# Altium integrated library Microchip DSC 16-Bit dsPIC33F.IntLib: 595 symbols (part 1 of 31)
Pins are listed as number, name and electrical type; pins without a type are passive.

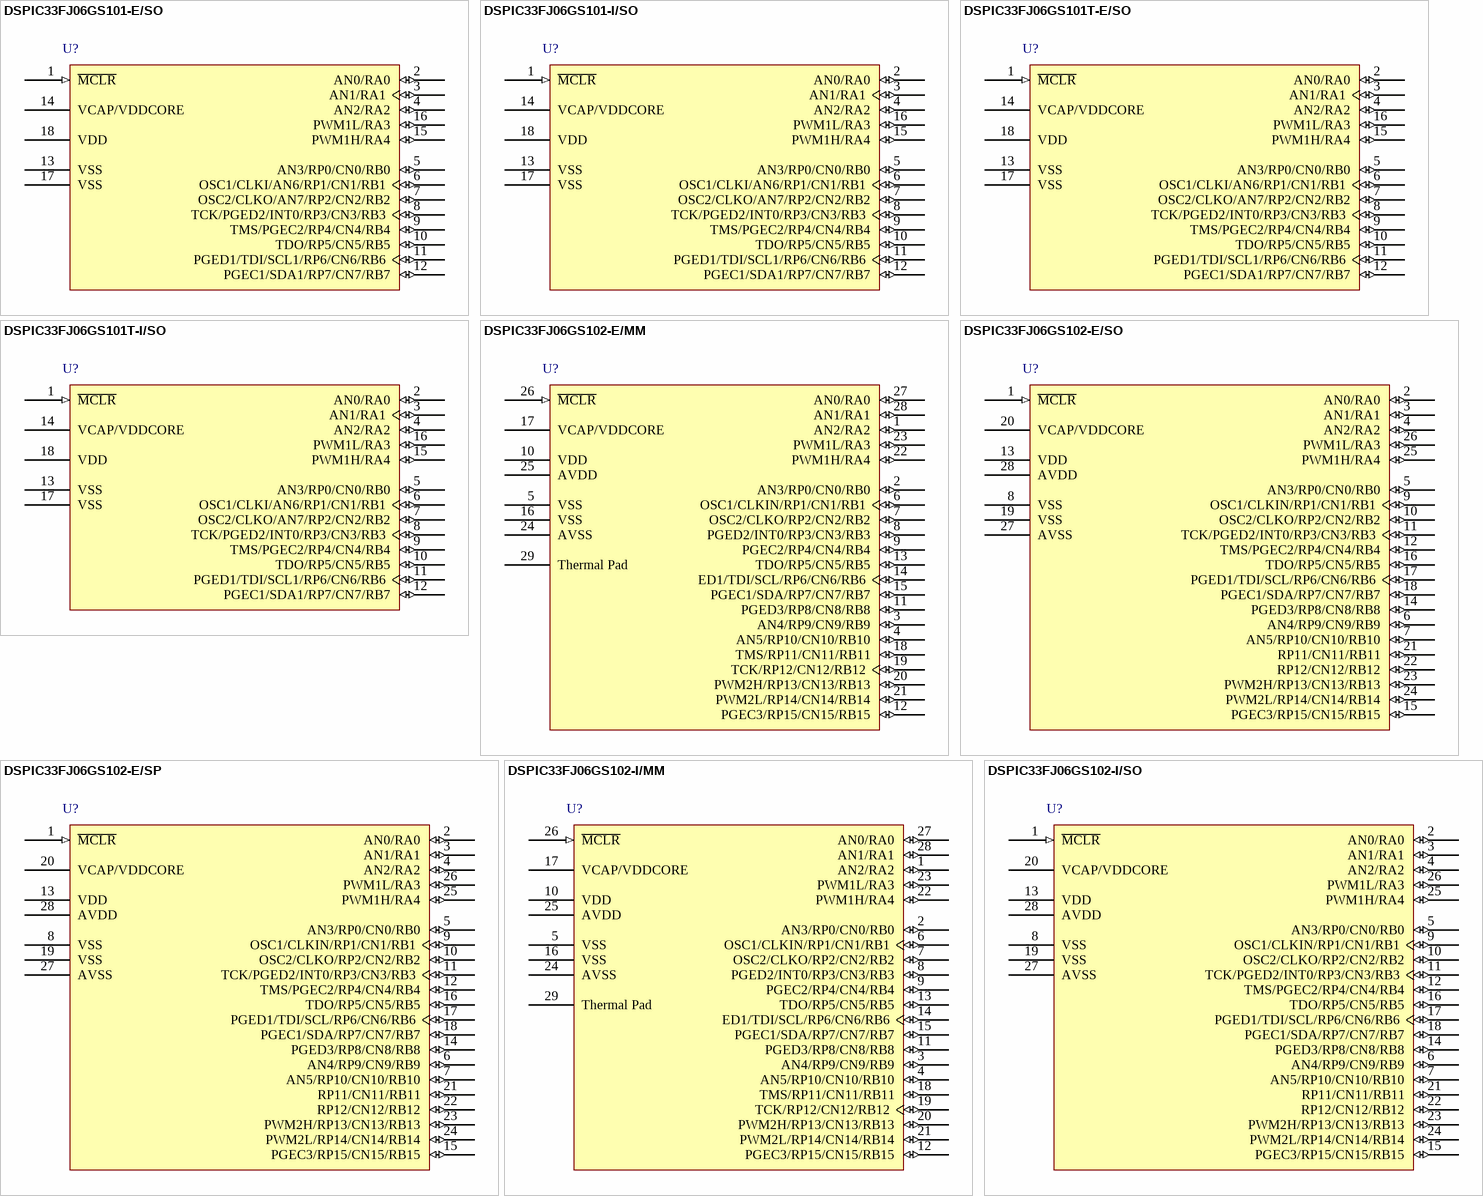
[diagram p0: symbols DSPIC33FJ06GS101-E/SO to DSPIC33FJ06GS102-I/SO]

## DSPIC33FJ06GS101-E/SO
designator U?
High-Performance 16-bit Digital Signal Controller, 6 KB Flash, 256B RAM , 18-Pin SOIC, Extended High Temperature; Published: 2-Dec-2009; DatasheetVersion: revD, Mar-2009; PackageVersion: revBB, Aug-2009; PackageReference: SOIC-SO18; Publisher: Altium Limited; PackageDescription: 18-Lead Plastic Small Outline (SO) - Wide 7.50mm Body [SOIC]; Supplier 1: Digi-Key; Supplier Part Number 1: DSPIC33FJ06GS101-E/SO-ND; Code_JEDEC: MS-013; ComponentLink1Description: Datasheet; ComponentLink1URL: http://ww1.microchip.com/downloads/en/DeviceDoc/70318D.pdf; ComponentLink2Description: Packaging Specification; ComponentLink2URL: http://www.microchip.com/stellent/groups/techpub_sg/documents/packagingspec/en012702.pdf; ComponentLink3Description: Microchip.com Home; ComponentLink3URL: http://www.microchip.com/
footprint SOIC-SO18_N (SOIC, 18-Leads, Body 11.5x7.5mm, Pitch 1.27mm, IPC Medium Density)
footprint SOIC-SO18_L (SOIC, 18-Leads, Body 11.5x7.5mm, Pitch 1.27mm, IPC High Density)
footprint SOIC-SO18_M (SOIC, 18-Leads, Body 11.5x7.5mm, Pitch 1.27mm, IPC Low Density)
pins: 1 ~{MCLR} (in), 2 AN0/RA0 (io), 3 AN1/RA1 (io), 4 AN2/RA2 (io), 5 AN3/RP0/CN0/RB0 (io), 6 OSC1/CLKI/AN6/RP1/CN1/RB1 (io), 7 OSC2/CLKO/AN7/RP2/CN2/RB2 (io), 8 TCK/PGED2/INT0/RP3/CN3/RB3 (io), 9 TMS/PGEC2/RP4/CN4/RB4 (io), 10 TDO/RP5/CN5/RB5 (io), 11 PGED1/TDI/SCL1/RP6/CN6/RB6 (io), 12 PGEC1/SDA1/RP7/CN7/RB7 (io), 13 VSS (power), 14 VCAP/VDDCORE (power), 15 PWM1H/RA4 (io), 16 PWM1L/RA3 (io), 17 VSS (power), 18 VDD (power)

## DSPIC33FJ06GS101-I/SO
designator U?
High-Performance 16-bit Digital Signal Controller, 6 KB Flash, 256B RAM , 18-Pin SOIC, Industrial Temperature; Published: 2-Dec-2009; DatasheetVersion: revD, Mar-2009; PackageVersion: revBB, Aug-2009; PackageReference: SOIC-SO18; Publisher: Altium Limited; PackageDescription: 18-Lead Plastic Small Outline (SO) - Wide 7.50mm Body [SOIC]; Supplier 1: Digi-Key; Supplier Part Number 1: DSPIC33FJ06GS101-I/SO-ND; Supplier 2: Farnell; Supplier Part Number 2: 1778678; Code_JEDEC: MS-013; ComponentLink1Description: Datasheet; ComponentLink1URL: http://ww1.microchip.com/downloads/en/DeviceDoc/70318D.pdf; ComponentLink2Description: Packaging Specification; ComponentLink2URL: http://www.microchip.com/stellent/groups/techpub_sg/documents/packagingspec/en012702.pdf; ComponentLink3Description: Microchip.com Home; ComponentLink3URL: http://www.microchip.com/
footprint SOIC-SO18_N (SOIC, 18-Leads, Body 11.5x7.5mm, Pitch 1.27mm, IPC Medium Density)
footprint SOIC-SO18_L (SOIC, 18-Leads, Body 11.5x7.5mm, Pitch 1.27mm, IPC High Density)
footprint SOIC-SO18_M (SOIC, 18-Leads, Body 11.5x7.5mm, Pitch 1.27mm, IPC Low Density)
pins: 1 ~{MCLR} (in), 2 AN0/RA0 (io), 3 AN1/RA1 (io), 4 AN2/RA2 (io), 5 AN3/RP0/CN0/RB0 (io), 6 OSC1/CLKI/AN6/RP1/CN1/RB1 (io), 7 OSC2/CLKO/AN7/RP2/CN2/RB2 (io), 8 TCK/PGED2/INT0/RP3/CN3/RB3 (io), 9 TMS/PGEC2/RP4/CN4/RB4 (io), 10 TDO/RP5/CN5/RB5 (io), 11 PGED1/TDI/SCL1/RP6/CN6/RB6 (io), 12 PGEC1/SDA1/RP7/CN7/RB7 (io), 13 VSS (power), 14 VCAP/VDDCORE (power), 15 PWM1H/RA4 (io), 16 PWM1L/RA3 (io), 17 VSS (power), 18 VDD (power)

## DSPIC33FJ06GS101T-E/SO
designator U?
High-Performance 16-bit Digital Signal Controller, 6 KB Flash, 256B RAM , 18-Pin SOIC, Extended High Temperature , Tape and Reel; Published: 2-Dec-2009; DatasheetVersion: revD, Mar-2009; PackageVersion: revBB, Aug-2009; PackageReference: SOIC-SO18; Publisher: Altium Limited; PackageDescription: 18-Lead Plastic Small Outline (SO) - Wide 7.50mm Body [SOIC]; Code_JEDEC: MS-013; ComponentLink1Description: Datasheet; ComponentLink1URL: http://ww1.microchip.com/downloads/en/DeviceDoc/70318D.pdf; ComponentLink2Description: Packaging Specification; ComponentLink2URL: http://www.microchip.com/stellent/groups/techpub_sg/documents/packagingspec/en012702.pdf; ComponentLink3Description: Microchip.com Home; ComponentLink3URL: http://www.microchip.com/
footprint SOIC-SO18_N (SOIC, 18-Leads, Body 11.5x7.5mm, Pitch 1.27mm, IPC Medium Density)
footprint SOIC-SO18_L (SOIC, 18-Leads, Body 11.5x7.5mm, Pitch 1.27mm, IPC High Density)
footprint SOIC-SO18_M (SOIC, 18-Leads, Body 11.5x7.5mm, Pitch 1.27mm, IPC Low Density)
pins: 1 ~{MCLR} (in), 2 AN0/RA0 (io), 3 AN1/RA1 (io), 4 AN2/RA2 (io), 5 AN3/RP0/CN0/RB0 (io), 6 OSC1/CLKI/AN6/RP1/CN1/RB1 (io), 7 OSC2/CLKO/AN7/RP2/CN2/RB2 (io), 8 TCK/PGED2/INT0/RP3/CN3/RB3 (io), 9 TMS/PGEC2/RP4/CN4/RB4 (io), 10 TDO/RP5/CN5/RB5 (io), 11 PGED1/TDI/SCL1/RP6/CN6/RB6 (io), 12 PGEC1/SDA1/RP7/CN7/RB7 (io), 13 VSS (power), 14 VCAP/VDDCORE (power), 15 PWM1H/RA4 (io), 16 PWM1L/RA3 (io), 17 VSS (power), 18 VDD (power)

## DSPIC33FJ06GS101T-I/SO
designator U?
High-Performance 16-bit Digital Signal Controller, 6 KB Flash, 256B RAM , 18-Pin SOIC, Industrial Temperature , Tape and Reel; Published: 2-Dec-2009; DatasheetVersion: revD, Mar-2009; PackageVersion: revBB, Aug-2009; PackageReference: SOIC-SO18; Publisher: Altium Limited; PackageDescription: 18-Lead Plastic Small Outline (SO) - Wide 7.50mm Body [SOIC]; Supplier 1: Digi-Key; Supplier Part Number 1: DSPIC33FJ06GS101T-I/SO-ND; Code_JEDEC: MS-013; ComponentLink1Description: Datasheet; ComponentLink1URL: http://ww1.microchip.com/downloads/en/DeviceDoc/70318D.pdf; ComponentLink2Description: Packaging Specification; ComponentLink2URL: http://www.microchip.com/stellent/groups/techpub_sg/documents/packagingspec/en012702.pdf; ComponentLink3Description: Microchip.com Home; ComponentLink3URL: http://www.microchip.com/
footprint SOIC-SO18_N (SOIC, 18-Leads, Body 11.5x7.5mm, Pitch 1.27mm, IPC Medium Density)
footprint SOIC-SO18_L (SOIC, 18-Leads, Body 11.5x7.5mm, Pitch 1.27mm, IPC High Density)
footprint SOIC-SO18_M (SOIC, 18-Leads, Body 11.5x7.5mm, Pitch 1.27mm, IPC Low Density)
pins: 1 ~{MCLR} (in), 2 AN0/RA0 (io), 3 AN1/RA1 (io), 4 AN2/RA2 (io), 5 AN3/RP0/CN0/RB0 (io), 6 OSC1/CLKI/AN6/RP1/CN1/RB1 (io), 7 OSC2/CLKO/AN7/RP2/CN2/RB2 (io), 8 TCK/PGED2/INT0/RP3/CN3/RB3 (io), 9 TMS/PGEC2/RP4/CN4/RB4 (io), 10 TDO/RP5/CN5/RB5 (io), 11 PGED1/TDI/SCL1/RP6/CN6/RB6 (io), 12 PGEC1/SDA1/RP7/CN7/RB7 (io), 13 VSS (power), 14 VCAP/VDDCORE (power), 15 PWM1H/RA4 (io), 16 PWM1L/RA3 (io), 17 VSS (power), 18 VDD (power)

## DSPIC33FJ06GS102-E/MM
designator U?
High-Performance 16-bit Digital Signal Controller, 6 KB Flash, 256B RAM , 28-Pin QFN, Extended High Temperature; Published: 2-Dec-2009; DatasheetVersion: revD, Mar-2009; PackageVersion: revBB, Aug-2009; PackageReference: QFNS-MM28; Publisher: Altium Limited; PackageDescription: 28-Lead Plastic Quad Flat, No Lead Package (MM) - 6x6x0.9 mm Body [QFN-S] with 0.40 mm Contact Length; Supplier 1: Digi-Key; Supplier Part Number 1: DSPIC33FJ06GS102-E/MM-ND; ComponentLink1Description: Datasheet; ComponentLink1URL: http://ww1.microchip.com/downloads/en/DeviceDoc/70318D.pdf; ComponentLink2Description: Packaging Specification; ComponentLink2URL: http://www.microchip.com/stellent/groups/techpub_sg/documents/packagingspec/en012702.pdf; ComponentLink3Description: Microchip.com Home; ComponentLink3URL: http://www.microchip.com/
footprint QFNS-MM28_N (QFN, 28-Leads, Body 6x6 mm, Pitch 0.65mm, IPC Medium Density)
footprint QFNS-MM28_L (QFN, 28-Leads, Body 6x6 mm, Pitch 0.65mm, IPC High Density)
footprint QFNS-MM28_M (QFN, 28-Leads, Body 6x6 mm, Pitch 0.65mm, IPC Low Density)
pins: 1 AN2/RA2 (io), 2 AN3/RP0/CN0/RB0 (io), 3 AN4/RP9/CN9/RB9 (io), 4 AN5/RP10/CN10/RB10 (io), 5 VSS (power), 6 OSC1/CLKIN/RP1/CN1/RB1 (io), 7 OSC2/CLKO/RP2/CN2/RB2 (io), 8 PGED2/INT0/RP3/CN3/RB3 (io), 9 PGEC2/RP4/CN4/RB4 (io), 10 VDD (power), 11 PGED3/RP8/CN8/RB8 (io), 12 PGEC3/RP15/CN15/RB15 (io), 13 TDO/RP5/CN5/RB5 (io), 14 ED1/TDI/SCL/RP6/CN6/RB6 (io), 15 PGEC1/SDA/RP7/CN7/RB7 (io), 16 VSS (power), 17 VCAP/VDDCORE (power), 18 TMS/RP11/CN11/RB11 (io), 19 TCK/RP12/CN12/RB12 (io), 20 PWM2H/RP13/CN13/RB13 (io), 21 PWM2L/RP14/CN14/RB14 (io), 22 PWM1H/RA4 (io), 23 PWM1L/RA3 (io), 24 AVSS (power), 25 AVDD (power), 26 ~{MCLR} (in), 27 AN0/RA0 (io), 28 AN1/RA1 (io), 29 Thermal Pad

## DSPIC33FJ06GS102-E/SO
designator U?
High-Performance 16-bit Digital Signal Controller, 6 KB Flash, 256B RAM , 28-Pin SOIC, Extended High Temperature; Published: 2-Dec-2009; DatasheetVersion: revD, Mar-2009; PackageVersion: revBB, Aug-2009; PackageReference: SOIC-SO28; Publisher: Altium Limited; PackageDescription: 28-Lead Plastic Small Outline (SO) - Wide 7.50mm Body [SOIC]; Supplier 1: Digi-Key; Supplier Part Number 1: DSPIC33FJ06GS102-E/SO-ND; Code_JEDEC: MS-013; ComponentLink1Description: Datasheet; ComponentLink1URL: http://ww1.microchip.com/downloads/en/DeviceDoc/70318D.pdf; ComponentLink2Description: Packaging Specification; ComponentLink2URL: http://www.microchip.com/stellent/groups/techpub_sg/documents/packagingspec/en012702.pdf; ComponentLink3Description: Microchip.com Home; ComponentLink3URL: http://www.microchip.com/
footprint SOIC-SO28_N (SOIC, 28-Leads, Body 17.9x7.5mm, Pitch 1.27mm, IPC Medium Density)
footprint SOIC-SO28_L (SOIC, 28-Leads, Body 17.9x7.5mm, Pitch 1.27mm, IPC High Density)
footprint SOIC-SO28_M (SOIC, 28-Leads, Body 17.9x7.5mm, Pitch 1.27mm, IPC Low Density)
pins: 1 ~{MCLR} (in), 2 AN0/RA0 (io), 3 AN1/RA1 (io), 4 AN2/RA2 (io), 5 AN3/RP0/CN0/RB0 (io), 6 AN4/RP9/CN9/RB9 (io), 7 AN5/RP10/CN10/RB10 (io), 8 VSS (power), 9 OSC1/CLKIN/RP1/CN1/RB1 (io), 10 OSC2/CLKO/RP2/CN2/RB2 (io), 11 TCK/PGED2/INT0/RP3/CN3/RB3 (io), 12 TMS/PGEC2/RP4/CN4/RB4 (io), 13 VDD (power), 14 PGED3/RP8/CN8/RB8 (io), 15 PGEC3/RP15/CN15/RB15 (io), 16 TDO/RP5/CN5/RB5 (io), 17 PGED1/TDI/SCL/RP6/CN6/RB6 (io), 18 PGEC1/SDA/RP7/CN7/RB7 (io), 19 VSS (power), 20 VCAP/VDDCORE (power), 21 RP11/CN11/RB11 (io), 22 RP12/CN12/RB12 (io), 23 PWM2H/RP13/CN13/RB13 (io), 24 PWM2L/RP14/CN14/RB14 (io), 25 PWM1H/RA4 (io), 26 PWM1L/RA3 (io), 27 AVSS (power), 28 AVDD (power)

## DSPIC33FJ06GS102-E/SP
designator U?
High-Performance 16-bit Digital Signal Controller, 6 KB Flash, 256B RAM , 28-Pin SPDIP, Extended High Temperature; Published: 2-Dec-2009; DatasheetVersion: revD, Mar-2009; PackageVersion: revBB, Aug-2009; PackageReference: SPDIP300-SP28; Publisher: Altium Limited; PackageDescription: 28-Lead Skinny Plastic Dual In-Line (SP) - 300 mil Body [SPDIP]; Supplier 1: Digi-Key; Supplier Part Number 1: DSPIC33FJ06GS102-E/SP-ND; ComponentLink1Description: Datasheet; ComponentLink1URL: http://ww1.microchip.com/downloads/en/DeviceDoc/70318D.pdf; ComponentLink2Description: Packaging Specification; ComponentLink2URL: http://www.microchip.com/stellent/groups/techpub_sg/documents/packagingspec/en012702.pdf; ComponentLink3Description: Microchip.com Home; ComponentLink3URL: http://www.microchip.com/
footprint SPDIP300-SP28 (DIP, 28-Leads, Row Spacing 7.62mm, Pitch 2.54mm, Body 34.9x6.8mm)
pins: 1 ~{MCLR} (in), 2 AN0/RA0 (io), 3 AN1/RA1 (io), 4 AN2/RA2 (io), 5 AN3/RP0/CN0/RB0 (io), 6 AN4/RP9/CN9/RB9 (io), 7 AN5/RP10/CN10/RB10 (io), 8 VSS (power), 9 OSC1/CLKIN/RP1/CN1/RB1 (io), 10 OSC2/CLKO/RP2/CN2/RB2 (io), 11 TCK/PGED2/INT0/RP3/CN3/RB3 (io), 12 TMS/PGEC2/RP4/CN4/RB4 (io), 13 VDD (power), 14 PGED3/RP8/CN8/RB8 (io), 15 PGEC3/RP15/CN15/RB15 (io), 16 TDO/RP5/CN5/RB5 (io), 17 PGED1/TDI/SCL/RP6/CN6/RB6 (io), 18 PGEC1/SDA/RP7/CN7/RB7 (io), 19 VSS (power), 20 VCAP/VDDCORE (power), 21 RP11/CN11/RB11 (io), 22 RP12/CN12/RB12 (io), 23 PWM2H/RP13/CN13/RB13 (io), 24 PWM2L/RP14/CN14/RB14 (io), 25 PWM1H/RA4 (io), 26 PWM1L/RA3 (io), 27 AVSS (power), 28 AVDD (power)

## DSPIC33FJ06GS102-I/MM
designator U?
High-Performance 16-bit Digital Signal Controller, 6 KB Flash, 256B RAM , 28-Pin QFN, Industrial Temperature; Published: 2-Dec-2009; DatasheetVersion: revD, Mar-2009; PackageVersion: revBB, Aug-2009; PackageReference: QFNS-MM28; Publisher: Altium Limited; PackageDescription: 28-Lead Plastic Quad Flat, No Lead Package (MM) - 6x6x0.9 mm Body [QFN-S] with 0.40 mm Contact Length; Supplier 1: Digi-Key; Supplier Part Number 1: DSPIC33FJ06GS102-I/MM-ND; ComponentLink1Description: Datasheet; ComponentLink1URL: http://ww1.microchip.com/downloads/en/DeviceDoc/70318D.pdf; ComponentLink2Description: Packaging Specification; ComponentLink2URL: http://www.microchip.com/stellent/groups/techpub_sg/documents/packagingspec/en012702.pdf; ComponentLink3Description: Microchip.com Home; ComponentLink3URL: http://www.microchip.com/
footprint QFNS-MM28_N (QFN, 28-Leads, Body 6x6 mm, Pitch 0.65mm, IPC Medium Density)
footprint QFNS-MM28_L (QFN, 28-Leads, Body 6x6 mm, Pitch 0.65mm, IPC High Density)
footprint QFNS-MM28_M (QFN, 28-Leads, Body 6x6 mm, Pitch 0.65mm, IPC Low Density)
pins: 1 AN2/RA2 (io), 2 AN3/RP0/CN0/RB0 (io), 3 AN4/RP9/CN9/RB9 (io), 4 AN5/RP10/CN10/RB10 (io), 5 VSS (power), 6 OSC1/CLKIN/RP1/CN1/RB1 (io), 7 OSC2/CLKO/RP2/CN2/RB2 (io), 8 PGED2/INT0/RP3/CN3/RB3 (io), 9 PGEC2/RP4/CN4/RB4 (io), 10 VDD (power), 11 PGED3/RP8/CN8/RB8 (io), 12 PGEC3/RP15/CN15/RB15 (io), 13 TDO/RP5/CN5/RB5 (io), 14 ED1/TDI/SCL/RP6/CN6/RB6 (io), 15 PGEC1/SDA/RP7/CN7/RB7 (io), 16 VSS (power), 17 VCAP/VDDCORE (power), 18 TMS/RP11/CN11/RB11 (io), 19 TCK/RP12/CN12/RB12 (io), 20 PWM2H/RP13/CN13/RB13 (io), 21 PWM2L/RP14/CN14/RB14 (io), 22 PWM1H/RA4 (io), 23 PWM1L/RA3 (io), 24 AVSS (power), 25 AVDD (power), 26 ~{MCLR} (in), 27 AN0/RA0 (io), 28 AN1/RA1 (io), 29 Thermal Pad

## DSPIC33FJ06GS102-I/SO
designator U?
High-Performance 16-bit Digital Signal Controller, 6 KB Flash, 256B RAM , 28-Pin SOIC, Industrial Temperature; Published: 2-Dec-2009; DatasheetVersion: revD, Mar-2009; PackageVersion: revBB, Aug-2009; PackageReference: SOIC-SO28; Publisher: Altium Limited; PackageDescription: 28-Lead Plastic Small Outline (SO) - Wide 7.50mm Body [SOIC]; Supplier 1: Digi-Key; Supplier Part Number 1: DSPIC33FJ06GS102-I/SO-ND; Supplier 2: Farnell; Supplier Part Number 2: 1778679; Code_JEDEC: MS-013; ComponentLink1Description: Datasheet; ComponentLink1URL: http://ww1.microchip.com/downloads/en/DeviceDoc/70318D.pdf; ComponentLink2Description: Packaging Specification; ComponentLink2URL: http://www.microchip.com/stellent/groups/techpub_sg/documents/packagingspec/en012702.pdf; ComponentLink3Description: Microchip.com Home; ComponentLink3URL: http://www.microchip.com/
footprint SOIC-SO28_N (SOIC, 28-Leads, Body 17.9x7.5mm, Pitch 1.27mm, IPC Medium Density)
footprint SOIC-SO28_L (SOIC, 28-Leads, Body 17.9x7.5mm, Pitch 1.27mm, IPC High Density)
footprint SOIC-SO28_M (SOIC, 28-Leads, Body 17.9x7.5mm, Pitch 1.27mm, IPC Low Density)
pins: 1 ~{MCLR} (in), 2 AN0/RA0 (io), 3 AN1/RA1 (io), 4 AN2/RA2 (io), 5 AN3/RP0/CN0/RB0 (io), 6 AN4/RP9/CN9/RB9 (io), 7 AN5/RP10/CN10/RB10 (io), 8 VSS (power), 9 OSC1/CLKIN/RP1/CN1/RB1 (io), 10 OSC2/CLKO/RP2/CN2/RB2 (io), 11 TCK/PGED2/INT0/RP3/CN3/RB3 (io), 12 TMS/PGEC2/RP4/CN4/RB4 (io), 13 VDD (power), 14 PGED3/RP8/CN8/RB8 (io), 15 PGEC3/RP15/CN15/RB15 (io), 16 TDO/RP5/CN5/RB5 (io), 17 PGED1/TDI/SCL/RP6/CN6/RB6 (io), 18 PGEC1/SDA/RP7/CN7/RB7 (io), 19 VSS (power), 20 VCAP/VDDCORE (power), 21 RP11/CN11/RB11 (io), 22 RP12/CN12/RB12 (io), 23 PWM2H/RP13/CN13/RB13 (io), 24 PWM2L/RP14/CN14/RB14 (io), 25 PWM1H/RA4 (io), 26 PWM1L/RA3 (io), 27 AVSS (power), 28 AVDD (power)

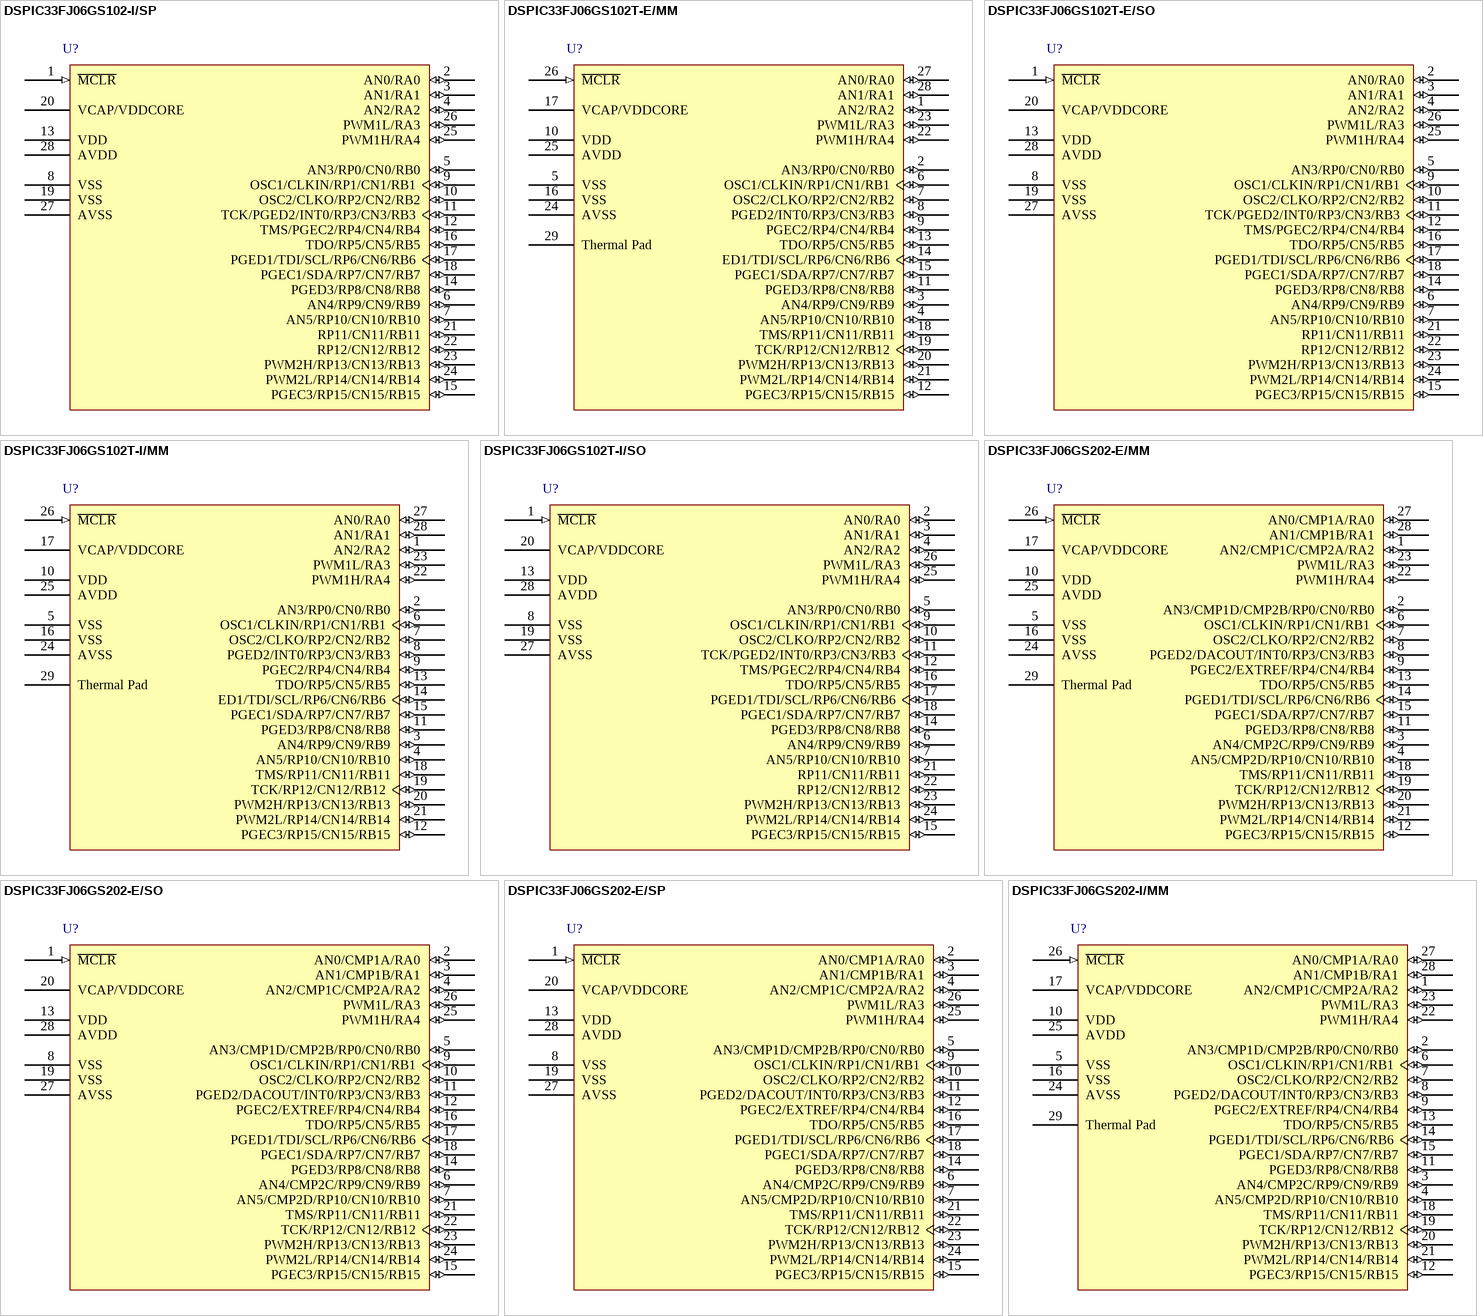
[diagram p1: symbols DSPIC33FJ06GS102-I/SP to DSPIC33FJ06GS202-I/MM]

## DSPIC33FJ06GS102-I/SP
designator U?
High-Performance 16-bit Digital Signal Controller, 6 KB Flash, 256B RAM , 28-Pin SPDIP, Industrial Temperature; Published: 2-Dec-2009; DatasheetVersion: revD, Mar-2009; PackageVersion: revBB, Aug-2009; PackageReference: SPDIP300-SP28; Publisher: Altium Limited; PackageDescription: 28-Lead Skinny Plastic Dual In-Line (SP) - 300 mil Body [SPDIP]; Supplier 1: Digi-Key; Supplier Part Number 1: DSPIC33FJ06GS102-I/SP-ND; Supplier 2: Farnell; Supplier Part Number 2: 1778680; ComponentLink1Description: Datasheet; ComponentLink1URL: http://ww1.microchip.com/downloads/en/DeviceDoc/70318D.pdf; ComponentLink2Description: Packaging Specification; ComponentLink2URL: http://www.microchip.com/stellent/groups/techpub_sg/documents/packagingspec/en012702.pdf; ComponentLink3Description: Microchip.com Home; ComponentLink3URL: http://www.microchip.com/
footprint SPDIP300-SP28 (DIP, 28-Leads, Row Spacing 7.62mm, Pitch 2.54mm, Body 34.9x6.8mm)
pins: 1 ~{MCLR} (in), 2 AN0/RA0 (io), 3 AN1/RA1 (io), 4 AN2/RA2 (io), 5 AN3/RP0/CN0/RB0 (io), 6 AN4/RP9/CN9/RB9 (io), 7 AN5/RP10/CN10/RB10 (io), 8 VSS (power), 9 OSC1/CLKIN/RP1/CN1/RB1 (io), 10 OSC2/CLKO/RP2/CN2/RB2 (io), 11 TCK/PGED2/INT0/RP3/CN3/RB3 (io), 12 TMS/PGEC2/RP4/CN4/RB4 (io), 13 VDD (power), 14 PGED3/RP8/CN8/RB8 (io), 15 PGEC3/RP15/CN15/RB15 (io), 16 TDO/RP5/CN5/RB5 (io), 17 PGED1/TDI/SCL/RP6/CN6/RB6 (io), 18 PGEC1/SDA/RP7/CN7/RB7 (io), 19 VSS (power), 20 VCAP/VDDCORE (power), 21 RP11/CN11/RB11 (io), 22 RP12/CN12/RB12 (io), 23 PWM2H/RP13/CN13/RB13 (io), 24 PWM2L/RP14/CN14/RB14 (io), 25 PWM1H/RA4 (io), 26 PWM1L/RA3 (io), 27 AVSS (power), 28 AVDD (power)

## DSPIC33FJ06GS102T-E/MM
designator U?
High-Performance 16-bit Digital Signal Controller, 6 KB Flash, 256B RAM , 28-Pin QFN, Extended High Temperature , Tape and Reel; Published: 2-Dec-2009; DatasheetVersion: revD, Mar-2009; PackageVersion: revBB, Aug-2009; PackageReference: QFNS-MM28; Publisher: Altium Limited; PackageDescription: 28-Lead Plastic Quad Flat, No Lead Package (MM) - 6x6x0.9 mm Body [QFN-S] with 0.40 mm Contact Length; ComponentLink1Description: Datasheet; ComponentLink1URL: http://ww1.microchip.com/downloads/en/DeviceDoc/70318D.pdf; ComponentLink2Description: Packaging Specification; ComponentLink2URL: http://www.microchip.com/stellent/groups/techpub_sg/documents/packagingspec/en012702.pdf; ComponentLink3Description: Microchip.com Home; ComponentLink3URL: http://www.microchip.com/
footprint QFNS-MM28_N (QFN, 28-Leads, Body 6x6 mm, Pitch 0.65mm, IPC Medium Density)
footprint QFNS-MM28_L (QFN, 28-Leads, Body 6x6 mm, Pitch 0.65mm, IPC High Density)
footprint QFNS-MM28_M (QFN, 28-Leads, Body 6x6 mm, Pitch 0.65mm, IPC Low Density)
pins: 1 AN2/RA2 (io), 2 AN3/RP0/CN0/RB0 (io), 3 AN4/RP9/CN9/RB9 (io), 4 AN5/RP10/CN10/RB10 (io), 5 VSS (power), 6 OSC1/CLKIN/RP1/CN1/RB1 (io), 7 OSC2/CLKO/RP2/CN2/RB2 (io), 8 PGED2/INT0/RP3/CN3/RB3 (io), 9 PGEC2/RP4/CN4/RB4 (io), 10 VDD (power), 11 PGED3/RP8/CN8/RB8 (io), 12 PGEC3/RP15/CN15/RB15 (io), 13 TDO/RP5/CN5/RB5 (io), 14 ED1/TDI/SCL/RP6/CN6/RB6 (io), 15 PGEC1/SDA/RP7/CN7/RB7 (io), 16 VSS (power), 17 VCAP/VDDCORE (power), 18 TMS/RP11/CN11/RB11 (io), 19 TCK/RP12/CN12/RB12 (io), 20 PWM2H/RP13/CN13/RB13 (io), 21 PWM2L/RP14/CN14/RB14 (io), 22 PWM1H/RA4 (io), 23 PWM1L/RA3 (io), 24 AVSS (power), 25 AVDD (power), 26 ~{MCLR} (in), 27 AN0/RA0 (io), 28 AN1/RA1 (io), 29 Thermal Pad

## DSPIC33FJ06GS102T-E/SO
designator U?
High-Performance 16-bit Digital Signal Controller, 6 KB Flash, 256B RAM , 28-Pin SOIC, Extended High Temperature , Tape and Reel; Published: 2-Dec-2009; DatasheetVersion: revD, Mar-2009; PackageVersion: revBB, Aug-2009; PackageReference: SOIC-SO28; Publisher: Altium Limited; PackageDescription: 28-Lead Plastic Small Outline (SO) - Wide 7.50mm Body [SOIC]; Code_JEDEC: MS-013; ComponentLink1Description: Datasheet; ComponentLink1URL: http://ww1.microchip.com/downloads/en/DeviceDoc/70318D.pdf; ComponentLink2Description: Packaging Specification; ComponentLink2URL: http://www.microchip.com/stellent/groups/techpub_sg/documents/packagingspec/en012702.pdf; ComponentLink3Description: Microchip.com Home; ComponentLink3URL: http://www.microchip.com/
footprint SOIC-SO28_N (SOIC, 28-Leads, Body 17.9x7.5mm, Pitch 1.27mm, IPC Medium Density)
footprint SOIC-SO28_L (SOIC, 28-Leads, Body 17.9x7.5mm, Pitch 1.27mm, IPC High Density)
footprint SOIC-SO28_M (SOIC, 28-Leads, Body 17.9x7.5mm, Pitch 1.27mm, IPC Low Density)
pins: 1 ~{MCLR} (in), 2 AN0/RA0 (io), 3 AN1/RA1 (io), 4 AN2/RA2 (io), 5 AN3/RP0/CN0/RB0 (io), 6 AN4/RP9/CN9/RB9 (io), 7 AN5/RP10/CN10/RB10 (io), 8 VSS (power), 9 OSC1/CLKIN/RP1/CN1/RB1 (io), 10 OSC2/CLKO/RP2/CN2/RB2 (io), 11 TCK/PGED2/INT0/RP3/CN3/RB3 (io), 12 TMS/PGEC2/RP4/CN4/RB4 (io), 13 VDD (power), 14 PGED3/RP8/CN8/RB8 (io), 15 PGEC3/RP15/CN15/RB15 (io), 16 TDO/RP5/CN5/RB5 (io), 17 PGED1/TDI/SCL/RP6/CN6/RB6 (io), 18 PGEC1/SDA/RP7/CN7/RB7 (io), 19 VSS (power), 20 VCAP/VDDCORE (power), 21 RP11/CN11/RB11 (io), 22 RP12/CN12/RB12 (io), 23 PWM2H/RP13/CN13/RB13 (io), 24 PWM2L/RP14/CN14/RB14 (io), 25 PWM1H/RA4 (io), 26 PWM1L/RA3 (io), 27 AVSS (power), 28 AVDD (power)

## DSPIC33FJ06GS102T-I/MM
designator U?
High-Performance 16-bit Digital Signal Controller, 6 KB Flash, 256B RAM , 28-Pin QFN, Industrial Temperature , Tape and Reel; Published: 2-Dec-2009; DatasheetVersion: revD, Mar-2009; PackageVersion: revBB, Aug-2009; PackageReference: QFNS-MM28; Publisher: Altium Limited; PackageDescription: 28-Lead Plastic Quad Flat, No Lead Package (MM) - 6x6x0.9 mm Body [QFN-S] with 0.40 mm Contact Length; Supplier 1: Digi-Key; Supplier Part Number 1: DSPIC33FJ06GS102T-I/MM-ND; ComponentLink1Description: Datasheet; ComponentLink1URL: http://ww1.microchip.com/downloads/en/DeviceDoc/70318D.pdf; ComponentLink2Description: Packaging Specification; ComponentLink2URL: http://www.microchip.com/stellent/groups/techpub_sg/documents/packagingspec/en012702.pdf; ComponentLink3Description: Microchip.com Home; ComponentLink3URL: http://www.microchip.com/
footprint QFNS-MM28_N (QFN, 28-Leads, Body 6x6 mm, Pitch 0.65mm, IPC Medium Density)
footprint QFNS-MM28_L (QFN, 28-Leads, Body 6x6 mm, Pitch 0.65mm, IPC High Density)
footprint QFNS-MM28_M (QFN, 28-Leads, Body 6x6 mm, Pitch 0.65mm, IPC Low Density)
pins: 1 AN2/RA2 (io), 2 AN3/RP0/CN0/RB0 (io), 3 AN4/RP9/CN9/RB9 (io), 4 AN5/RP10/CN10/RB10 (io), 5 VSS (power), 6 OSC1/CLKIN/RP1/CN1/RB1 (io), 7 OSC2/CLKO/RP2/CN2/RB2 (io), 8 PGED2/INT0/RP3/CN3/RB3 (io), 9 PGEC2/RP4/CN4/RB4 (io), 10 VDD (power), 11 PGED3/RP8/CN8/RB8 (io), 12 PGEC3/RP15/CN15/RB15 (io), 13 TDO/RP5/CN5/RB5 (io), 14 ED1/TDI/SCL/RP6/CN6/RB6 (io), 15 PGEC1/SDA/RP7/CN7/RB7 (io), 16 VSS (power), 17 VCAP/VDDCORE (power), 18 TMS/RP11/CN11/RB11 (io), 19 TCK/RP12/CN12/RB12 (io), 20 PWM2H/RP13/CN13/RB13 (io), 21 PWM2L/RP14/CN14/RB14 (io), 22 PWM1H/RA4 (io), 23 PWM1L/RA3 (io), 24 AVSS (power), 25 AVDD (power), 26 ~{MCLR} (in), 27 AN0/RA0 (io), 28 AN1/RA1 (io), 29 Thermal Pad

## DSPIC33FJ06GS102T-I/SO
designator U?
High-Performance 16-bit Digital Signal Controller, 6 KB Flash, 256B RAM , 28-Pin SOIC, Industrial Temperature , Tape and Reel; Published: 2-Dec-2009; DatasheetVersion: revD, Mar-2009; PackageVersion: revBB, Aug-2009; PackageReference: SOIC-SO28; Publisher: Altium Limited; PackageDescription: 28-Lead Plastic Small Outline (SO) - Wide 7.50mm Body [SOIC]; Supplier 1: Digi-Key; Supplier Part Number 1: DSPIC33FJ06GS102T-I/SO-ND; Code_JEDEC: MS-013; ComponentLink1Description: Datasheet; ComponentLink1URL: http://ww1.microchip.com/downloads/en/DeviceDoc/70318D.pdf; ComponentLink2Description: Packaging Specification; ComponentLink2URL: http://www.microchip.com/stellent/groups/techpub_sg/documents/packagingspec/en012702.pdf; ComponentLink3Description: Microchip.com Home; ComponentLink3URL: http://www.microchip.com/
footprint SOIC-SO28_N (SOIC, 28-Leads, Body 17.9x7.5mm, Pitch 1.27mm, IPC Medium Density)
footprint SOIC-SO28_L (SOIC, 28-Leads, Body 17.9x7.5mm, Pitch 1.27mm, IPC High Density)
footprint SOIC-SO28_M (SOIC, 28-Leads, Body 17.9x7.5mm, Pitch 1.27mm, IPC Low Density)
pins: 1 ~{MCLR} (in), 2 AN0/RA0 (io), 3 AN1/RA1 (io), 4 AN2/RA2 (io), 5 AN3/RP0/CN0/RB0 (io), 6 AN4/RP9/CN9/RB9 (io), 7 AN5/RP10/CN10/RB10 (io), 8 VSS (power), 9 OSC1/CLKIN/RP1/CN1/RB1 (io), 10 OSC2/CLKO/RP2/CN2/RB2 (io), 11 TCK/PGED2/INT0/RP3/CN3/RB3 (io), 12 TMS/PGEC2/RP4/CN4/RB4 (io), 13 VDD (power), 14 PGED3/RP8/CN8/RB8 (io), 15 PGEC3/RP15/CN15/RB15 (io), 16 TDO/RP5/CN5/RB5 (io), 17 PGED1/TDI/SCL/RP6/CN6/RB6 (io), 18 PGEC1/SDA/RP7/CN7/RB7 (io), 19 VSS (power), 20 VCAP/VDDCORE (power), 21 RP11/CN11/RB11 (io), 22 RP12/CN12/RB12 (io), 23 PWM2H/RP13/CN13/RB13 (io), 24 PWM2L/RP14/CN14/RB14 (io), 25 PWM1H/RA4 (io), 26 PWM1L/RA3 (io), 27 AVSS (power), 28 AVDD (power)

## DSPIC33FJ06GS202-E/MM
designator U?
High-Performance 16-bit Digital Signal Controller, 6 KB Flash, 1 KB RAM , 28-Pin QFN, Extended High Temperature; Published: 2-Dec-2009; DatasheetVersion: revD, Mar-2009; PackageVersion: revBB, Aug-2009; PackageReference: QFNS-MM28; Publisher: Altium Limited; PackageDescription: 28-Lead Plastic Quad Flat, No Lead Package (MM) - 6x6x0.9 mm Body [QFN-S] with 0.40 mm Contact Length; Supplier 1: Digi-Key; Supplier Part Number 1: DSPIC33FJ06GS202-E/MM-ND; ComponentLink1Description: Datasheet; ComponentLink1URL: http://ww1.microchip.com/downloads/en/DeviceDoc/70318D.pdf; ComponentLink2Description: Packaging Specification; ComponentLink2URL: http://www.microchip.com/stellent/groups/techpub_sg/documents/packagingspec/en012702.pdf; ComponentLink3Description: Microchip.com Home; ComponentLink3URL: http://www.microchip.com/
footprint QFNS-MM28_N (QFN, 28-Leads, Body 6x6 mm, Pitch 0.65mm, IPC Medium Density)
footprint QFNS-MM28_L (QFN, 28-Leads, Body 6x6 mm, Pitch 0.65mm, IPC High Density)
footprint QFNS-MM28_M (QFN, 28-Leads, Body 6x6 mm, Pitch 0.65mm, IPC Low Density)
pins: 1 AN2/CMP1C/CMP2A/RA2 (io), 2 AN3/CMP1D/CMP2B/RP0/CN0/RB0 (io), 3 AN4/CMP2C/RP9/CN9/RB9 (io), 4 AN5/CMP2D/RP10/CN10/RB10 (io), 5 VSS (power), 6 OSC1/CLKIN/RP1/CN1/RB1 (io), 7 OSC2/CLKO/RP2/CN2/RB2 (io), 8 PGED2/DACOUT/INT0/RP3/CN3/RB3 (io), 9 PGEC2/EXTREF/RP4/CN4/RB4 (io), 10 VDD (power), 11 PGED3/RP8/CN8/RB8 (io), 12 PGEC3/RP15/CN15/RB15 (io), 13 TDO/RP5/CN5/RB5 (io), 14 PGED1/TDI/SCL/RP6/CN6/RB6 (io), 15 PGEC1/SDA/RP7/CN7/RB7 (io), 16 VSS (power), 17 VCAP/VDDCORE (power), 18 TMS/RP11/CN11/RB11 (io), 19 TCK/RP12/CN12/RB12 (io), 20 PWM2H/RP13/CN13/RB13 (io), 21 PWM2L/RP14/CN14/RB14 (io), 22 PWM1H/RA4 (io), 23 PWM1L/RA3 (io), 24 AVSS (power), 25 AVDD (power), 26 ~{MCLR} (in), 27 AN0/CMP1A/RA0 (io), 28 AN1/CMP1B/RA1 (io), 29 Thermal Pad

## DSPIC33FJ06GS202-E/SO
designator U?
High-Performance 16-bit Digital Signal Controller, 6 KB Flash, 1 KB RAM , 28-Pin SOIC, Extended High Temperature; Published: 2-Dec-2009; DatasheetVersion: revD, Mar-2009; PackageVersion: revBB, Aug-2009; PackageReference: SOIC-SO28; Publisher: Altium Limited; PackageDescription: 28-Lead Plastic Small Outline (SO) - Wide 7.50mm Body [SOIC]; Supplier 1: Digi-Key; Supplier Part Number 1: DSPIC33FJ06GS202-E/SO-ND; Code_JEDEC: MS-013; ComponentLink1Description: Datasheet; ComponentLink1URL: http://ww1.microchip.com/downloads/en/DeviceDoc/70318D.pdf; ComponentLink2Description: Packaging Specification; ComponentLink2URL: http://www.microchip.com/stellent/groups/techpub_sg/documents/packagingspec/en012702.pdf; ComponentLink3Description: Microchip.com Home; ComponentLink3URL: http://www.microchip.com/
footprint SOIC-SO28_N (SOIC, 28-Leads, Body 17.9x7.5mm, Pitch 1.27mm, IPC Medium Density)
footprint SOIC-SO28_L (SOIC, 28-Leads, Body 17.9x7.5mm, Pitch 1.27mm, IPC High Density)
footprint SOIC-SO28_M (SOIC, 28-Leads, Body 17.9x7.5mm, Pitch 1.27mm, IPC Low Density)
pins: 1 ~{MCLR} (in), 2 AN0/CMP1A/RA0 (io), 3 AN1/CMP1B/RA1 (io), 4 AN2/CMP1C/CMP2A/RA2 (io), 5 AN3/CMP1D/CMP2B/RP0/CN0/RB0 (io), 6 AN4/CMP2C/RP9/CN9/RB9 (io), 7 AN5/CMP2D/RP10/CN10/RB10 (io), 8 VSS (power), 9 OSC1/CLKIN/RP1/CN1/RB1 (io), 10 OSC2/CLKO/RP2/CN2/RB2 (io), 11 PGED2/DACOUT/INT0/RP3/CN3/RB3 (io), 12 PGEC2/EXTREF/RP4/CN4/RB4 (io), 13 VDD (power), 14 PGED3/RP8/CN8/RB8 (io), 15 PGEC3/RP15/CN15/RB15 (io), 16 TDO/RP5/CN5/RB5 (io), 17 PGED1/TDI/SCL/RP6/CN6/RB6 (io), 18 PGEC1/SDA/RP7/CN7/RB7 (io), 19 VSS (power), 20 VCAP/VDDCORE (power), 21 TMS/RP11/CN11/RB11 (io), 22 TCK/RP12/CN12/RB12 (io), 23 PWM2H/RP13/CN13/RB13 (io), 24 PWM2L/RP14/CN14/RB14 (io), 25 PWM1H/RA4 (io), 26 PWM1L/RA3 (io), 27 AVSS (power), 28 AVDD (power)

## DSPIC33FJ06GS202-E/SP
designator U?
High-Performance 16-bit Digital Signal Controller, 6 KB Flash, 1 KB RAM , 28-Pin SPDIP, Extended High Temperature; Published: 2-Dec-2009; DatasheetVersion: revD, Mar-2009; PackageVersion: revBB, Aug-2009; PackageReference: SPDIP300-SP28; Publisher: Altium Limited; PackageDescription: 28-Lead Skinny Plastic Dual In-Line (SP) - 300 mil Body [SPDIP]; Supplier 1: Digi-Key; Supplier Part Number 1: DSPIC33FJ06GS202-E/SP-ND; ComponentLink1Description: Datasheet; ComponentLink1URL: http://ww1.microchip.com/downloads/en/DeviceDoc/70318D.pdf; ComponentLink2Description: Packaging Specification; ComponentLink2URL: http://www.microchip.com/stellent/groups/techpub_sg/documents/packagingspec/en012702.pdf; ComponentLink3Description: Microchip.com Home; ComponentLink3URL: http://www.microchip.com/
footprint SPDIP300-SP28 (DIP, 28-Leads, Row Spacing 7.62mm, Pitch 2.54mm, Body 34.9x6.8mm)
pins: 1 ~{MCLR} (in), 2 AN0/CMP1A/RA0 (io), 3 AN1/CMP1B/RA1 (io), 4 AN2/CMP1C/CMP2A/RA2 (io), 5 AN3/CMP1D/CMP2B/RP0/CN0/RB0 (io), 6 AN4/CMP2C/RP9/CN9/RB9 (io), 7 AN5/CMP2D/RP10/CN10/RB10 (io), 8 VSS (power), 9 OSC1/CLKIN/RP1/CN1/RB1 (io), 10 OSC2/CLKO/RP2/CN2/RB2 (io), 11 PGED2/DACOUT/INT0/RP3/CN3/RB3 (io), 12 PGEC2/EXTREF/RP4/CN4/RB4 (io), 13 VDD (power), 14 PGED3/RP8/CN8/RB8 (io), 15 PGEC3/RP15/CN15/RB15 (io), 16 TDO/RP5/CN5/RB5 (io), 17 PGED1/TDI/SCL/RP6/CN6/RB6 (io), 18 PGEC1/SDA/RP7/CN7/RB7 (io), 19 VSS (power), 20 VCAP/VDDCORE (power), 21 TMS/RP11/CN11/RB11 (io), 22 TCK/RP12/CN12/RB12 (io), 23 PWM2H/RP13/CN13/RB13 (io), 24 PWM2L/RP14/CN14/RB14 (io), 25 PWM1H/RA4 (io), 26 PWM1L/RA3 (io), 27 AVSS (power), 28 AVDD (power)

## DSPIC33FJ06GS202-I/MM
designator U?
High-Performance 16-bit Digital Signal Controller, 6 KB Flash, 1 KB RAM , 28-Pin QFN, Industrial Temperature; Published: 2-Dec-2009; DatasheetVersion: revD, Mar-2009; PackageVersion: revBB, Aug-2009; PackageReference: QFNS-MM28; Publisher: Altium Limited; PackageDescription: 28-Lead Plastic Quad Flat, No Lead Package (MM) - 6x6x0.9 mm Body [QFN-S] with 0.40 mm Contact Length; Supplier 1: Digi-Key; Supplier Part Number 1: DSPIC33FJ06GS202-I/MM-ND; ComponentLink1Description: Datasheet; ComponentLink1URL: http://ww1.microchip.com/downloads/en/DeviceDoc/70318D.pdf; ComponentLink2Description: Packaging Specification; ComponentLink2URL: http://www.microchip.com/stellent/groups/techpub_sg/documents/packagingspec/en012702.pdf; ComponentLink3Description: Microchip.com Home; ComponentLink3URL: http://www.microchip.com/
footprint QFNS-MM28_N (QFN, 28-Leads, Body 6x6 mm, Pitch 0.65mm, IPC Medium Density)
footprint QFNS-MM28_L (QFN, 28-Leads, Body 6x6 mm, Pitch 0.65mm, IPC High Density)
footprint QFNS-MM28_M (QFN, 28-Leads, Body 6x6 mm, Pitch 0.65mm, IPC Low Density)
pins: 1 AN2/CMP1C/CMP2A/RA2 (io), 2 AN3/CMP1D/CMP2B/RP0/CN0/RB0 (io), 3 AN4/CMP2C/RP9/CN9/RB9 (io), 4 AN5/CMP2D/RP10/CN10/RB10 (io), 5 VSS (power), 6 OSC1/CLKIN/RP1/CN1/RB1 (io), 7 OSC2/CLKO/RP2/CN2/RB2 (io), 8 PGED2/DACOUT/INT0/RP3/CN3/RB3 (io), 9 PGEC2/EXTREF/RP4/CN4/RB4 (io), 10 VDD (power), 11 PGED3/RP8/CN8/RB8 (io), 12 PGEC3/RP15/CN15/RB15 (io), 13 TDO/RP5/CN5/RB5 (io), 14 PGED1/TDI/SCL/RP6/CN6/RB6 (io), 15 PGEC1/SDA/RP7/CN7/RB7 (io), 16 VSS (power), 17 VCAP/VDDCORE (power), 18 TMS/RP11/CN11/RB11 (io), 19 TCK/RP12/CN12/RB12 (io), 20 PWM2H/RP13/CN13/RB13 (io), 21 PWM2L/RP14/CN14/RB14 (io), 22 PWM1H/RA4 (io), 23 PWM1L/RA3 (io), 24 AVSS (power), 25 AVDD (power), 26 ~{MCLR} (in), 27 AN0/CMP1A/RA0 (io), 28 AN1/CMP1B/RA1 (io), 29 Thermal Pad

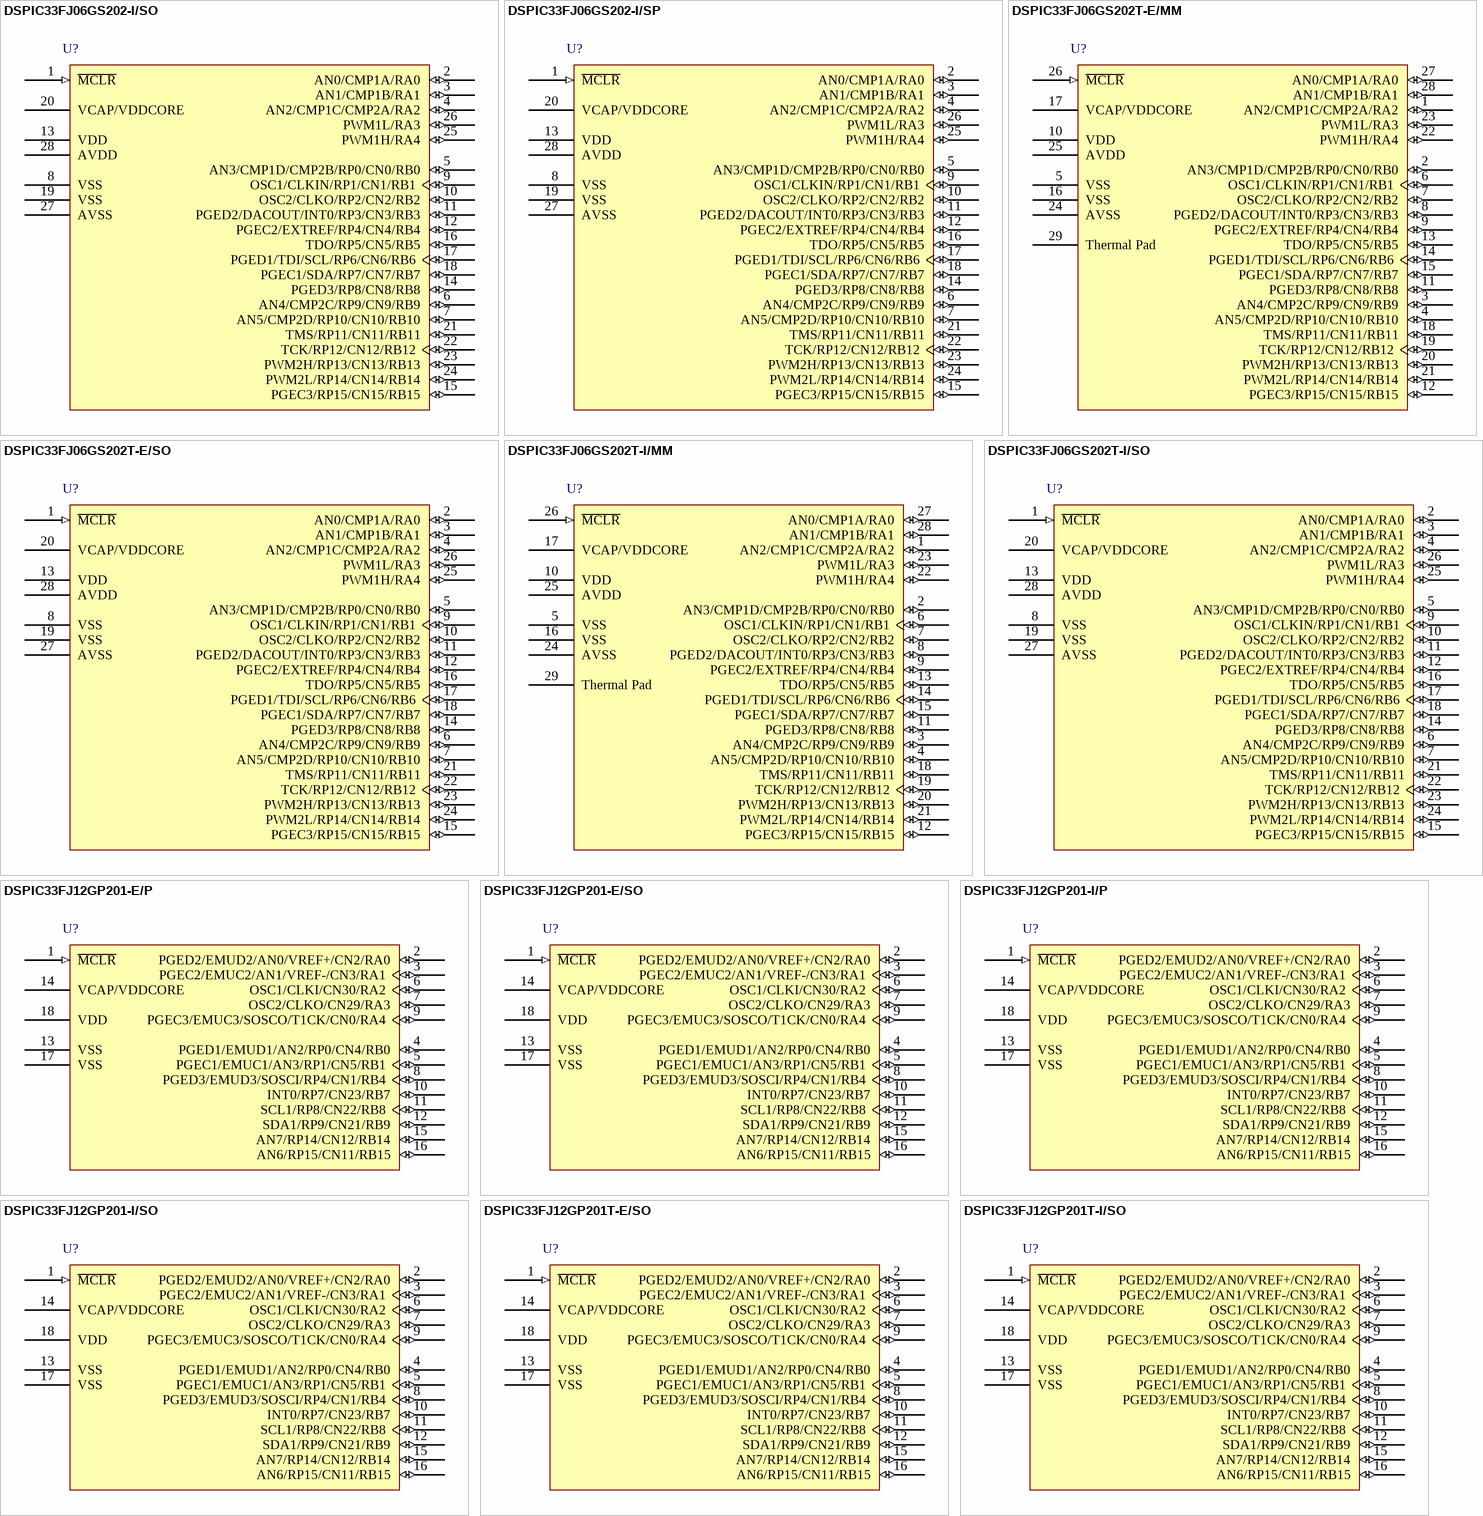
[diagram p2: symbols DSPIC33FJ06GS202-I/SO to DSPIC33FJ12GP201T-I/SO]

## DSPIC33FJ06GS202-I/SO
designator U?
High-Performance 16-bit Digital Signal Controller, 6 KB Flash, 1 KB RAM , 28-Pin SOIC, Industrial Temperature; Published: 2-Dec-2009; DatasheetVersion: revD, Mar-2009; PackageVersion: revBB, Aug-2009; PackageReference: SOIC-SO28; Publisher: Altium Limited; PackageDescription: 28-Lead Plastic Small Outline (SO) - Wide 7.50mm Body [SOIC]; Supplier 1: Digi-Key; Supplier Part Number 1: DSPIC33FJ06GS202-I/SO-ND; Supplier 2: Farnell; Supplier Part Number 2: 1778681; Code_JEDEC: MS-013; ComponentLink1Description: Datasheet; ComponentLink1URL: http://ww1.microchip.com/downloads/en/DeviceDoc/70318D.pdf; ComponentLink2Description: Packaging Specification; ComponentLink2URL: http://www.microchip.com/stellent/groups/techpub_sg/documents/packagingspec/en012702.pdf; ComponentLink3Description: Microchip.com Home; ComponentLink3URL: http://www.microchip.com/
footprint SOIC-SO28_N (SOIC, 28-Leads, Body 17.9x7.5mm, Pitch 1.27mm, IPC Medium Density)
footprint SOIC-SO28_L (SOIC, 28-Leads, Body 17.9x7.5mm, Pitch 1.27mm, IPC High Density)
footprint SOIC-SO28_M (SOIC, 28-Leads, Body 17.9x7.5mm, Pitch 1.27mm, IPC Low Density)
pins: 1 ~{MCLR} (in), 2 AN0/CMP1A/RA0 (io), 3 AN1/CMP1B/RA1 (io), 4 AN2/CMP1C/CMP2A/RA2 (io), 5 AN3/CMP1D/CMP2B/RP0/CN0/RB0 (io), 6 AN4/CMP2C/RP9/CN9/RB9 (io), 7 AN5/CMP2D/RP10/CN10/RB10 (io), 8 VSS (power), 9 OSC1/CLKIN/RP1/CN1/RB1 (io), 10 OSC2/CLKO/RP2/CN2/RB2 (io), 11 PGED2/DACOUT/INT0/RP3/CN3/RB3 (io), 12 PGEC2/EXTREF/RP4/CN4/RB4 (io), 13 VDD (power), 14 PGED3/RP8/CN8/RB8 (io), 15 PGEC3/RP15/CN15/RB15 (io), 16 TDO/RP5/CN5/RB5 (io), 17 PGED1/TDI/SCL/RP6/CN6/RB6 (io), 18 PGEC1/SDA/RP7/CN7/RB7 (io), 19 VSS (power), 20 VCAP/VDDCORE (power), 21 TMS/RP11/CN11/RB11 (io), 22 TCK/RP12/CN12/RB12 (io), 23 PWM2H/RP13/CN13/RB13 (io), 24 PWM2L/RP14/CN14/RB14 (io), 25 PWM1H/RA4 (io), 26 PWM1L/RA3 (io), 27 AVSS (power), 28 AVDD (power)

## DSPIC33FJ06GS202-I/SP
designator U?
High-Performance 16-bit Digital Signal Controller, 6 KB Flash, 1 KB RAM , 28-Pin SPDIP, Industrial Temperature; Published: 2-Dec-2009; DatasheetVersion: revD, Mar-2009; PackageVersion: revBB, Aug-2009; PackageReference: SPDIP300-SP28; Publisher: Altium Limited; PackageDescription: 28-Lead Skinny Plastic Dual In-Line (SP) - 300 mil Body [SPDIP]; Supplier 1: Digi-Key; Supplier Part Number 1: DSPIC33FJ06GS202-I/SP-ND; Supplier 2: Farnell; Supplier Part Number 2: 1778682; ComponentLink1Description: Datasheet; ComponentLink1URL: http://ww1.microchip.com/downloads/en/DeviceDoc/70318D.pdf; ComponentLink2Description: Packaging Specification; ComponentLink2URL: http://www.microchip.com/stellent/groups/techpub_sg/documents/packagingspec/en012702.pdf; ComponentLink3Description: Microchip.com Home; ComponentLink3URL: http://www.microchip.com/
footprint SPDIP300-SP28 (DIP, 28-Leads, Row Spacing 7.62mm, Pitch 2.54mm, Body 34.9x6.8mm)
pins: 1 ~{MCLR} (in), 2 AN0/CMP1A/RA0 (io), 3 AN1/CMP1B/RA1 (io), 4 AN2/CMP1C/CMP2A/RA2 (io), 5 AN3/CMP1D/CMP2B/RP0/CN0/RB0 (io), 6 AN4/CMP2C/RP9/CN9/RB9 (io), 7 AN5/CMP2D/RP10/CN10/RB10 (io), 8 VSS (power), 9 OSC1/CLKIN/RP1/CN1/RB1 (io), 10 OSC2/CLKO/RP2/CN2/RB2 (io), 11 PGED2/DACOUT/INT0/RP3/CN3/RB3 (io), 12 PGEC2/EXTREF/RP4/CN4/RB4 (io), 13 VDD (power), 14 PGED3/RP8/CN8/RB8 (io), 15 PGEC3/RP15/CN15/RB15 (io), 16 TDO/RP5/CN5/RB5 (io), 17 PGED1/TDI/SCL/RP6/CN6/RB6 (io), 18 PGEC1/SDA/RP7/CN7/RB7 (io), 19 VSS (power), 20 VCAP/VDDCORE (power), 21 TMS/RP11/CN11/RB11 (io), 22 TCK/RP12/CN12/RB12 (io), 23 PWM2H/RP13/CN13/RB13 (io), 24 PWM2L/RP14/CN14/RB14 (io), 25 PWM1H/RA4 (io), 26 PWM1L/RA3 (io), 27 AVSS (power), 28 AVDD (power)

## DSPIC33FJ06GS202T-E/MM
designator U?
High-Performance 16-bit Digital Signal Controller, 6 KB Flash, 1 KB RAM , 28-Pin QFN, Extended High Temperature , Tape and Reel; Published: 2-Dec-2009; DatasheetVersion: revD, Mar-2009; PackageVersion: revBB, Aug-2009; PackageReference: QFNS-MM28; Publisher: Altium Limited; PackageDescription: 28-Lead Plastic Quad Flat, No Lead Package (MM) - 6x6x0.9 mm Body [QFN-S] with 0.40 mm Contact Length; ComponentLink1Description: Datasheet; ComponentLink1URL: http://ww1.microchip.com/downloads/en/DeviceDoc/70318D.pdf; ComponentLink2Description: Packaging Specification; ComponentLink2URL: http://www.microchip.com/stellent/groups/techpub_sg/documents/packagingspec/en012702.pdf; ComponentLink3Description: Microchip.com Home; ComponentLink3URL: http://www.microchip.com/
footprint QFNS-MM28_N (QFN, 28-Leads, Body 6x6 mm, Pitch 0.65mm, IPC Medium Density)
footprint QFNS-MM28_L (QFN, 28-Leads, Body 6x6 mm, Pitch 0.65mm, IPC High Density)
footprint QFNS-MM28_M (QFN, 28-Leads, Body 6x6 mm, Pitch 0.65mm, IPC Low Density)
pins: 1 AN2/CMP1C/CMP2A/RA2 (io), 2 AN3/CMP1D/CMP2B/RP0/CN0/RB0 (io), 3 AN4/CMP2C/RP9/CN9/RB9 (io), 4 AN5/CMP2D/RP10/CN10/RB10 (io), 5 VSS (power), 6 OSC1/CLKIN/RP1/CN1/RB1 (io), 7 OSC2/CLKO/RP2/CN2/RB2 (io), 8 PGED2/DACOUT/INT0/RP3/CN3/RB3 (io), 9 PGEC2/EXTREF/RP4/CN4/RB4 (io), 10 VDD (power), 11 PGED3/RP8/CN8/RB8 (io), 12 PGEC3/RP15/CN15/RB15 (io), 13 TDO/RP5/CN5/RB5 (io), 14 PGED1/TDI/SCL/RP6/CN6/RB6 (io), 15 PGEC1/SDA/RP7/CN7/RB7 (io), 16 VSS (power), 17 VCAP/VDDCORE (power), 18 TMS/RP11/CN11/RB11 (io), 19 TCK/RP12/CN12/RB12 (io), 20 PWM2H/RP13/CN13/RB13 (io), 21 PWM2L/RP14/CN14/RB14 (io), 22 PWM1H/RA4 (io), 23 PWM1L/RA3 (io), 24 AVSS (power), 25 AVDD (power), 26 ~{MCLR} (in), 27 AN0/CMP1A/RA0 (io), 28 AN1/CMP1B/RA1 (io), 29 Thermal Pad

## DSPIC33FJ06GS202T-E/SO
designator U?
High-Performance 16-bit Digital Signal Controller, 6 KB Flash, 1 KB RAM , 28-Pin SOIC, Extended High Temperature , Tape and Reel; Published: 2-Dec-2009; DatasheetVersion: revD, Mar-2009; PackageVersion: revBB, Aug-2009; PackageReference: SOIC-SO28; Publisher: Altium Limited; PackageDescription: 28-Lead Plastic Small Outline (SO) - Wide 7.50mm Body [SOIC]; Code_JEDEC: MS-013; ComponentLink1Description: Datasheet; ComponentLink1URL: http://ww1.microchip.com/downloads/en/DeviceDoc/70318D.pdf; ComponentLink2Description: Packaging Specification; ComponentLink2URL: http://www.microchip.com/stellent/groups/techpub_sg/documents/packagingspec/en012702.pdf; ComponentLink3Description: Microchip.com Home; ComponentLink3URL: http://www.microchip.com/
footprint SOIC-SO28_N (SOIC, 28-Leads, Body 17.9x7.5mm, Pitch 1.27mm, IPC Medium Density)
footprint SOIC-SO28_L (SOIC, 28-Leads, Body 17.9x7.5mm, Pitch 1.27mm, IPC High Density)
footprint SOIC-SO28_M (SOIC, 28-Leads, Body 17.9x7.5mm, Pitch 1.27mm, IPC Low Density)
pins: 1 ~{MCLR} (in), 2 AN0/CMP1A/RA0 (io), 3 AN1/CMP1B/RA1 (io), 4 AN2/CMP1C/CMP2A/RA2 (io), 5 AN3/CMP1D/CMP2B/RP0/CN0/RB0 (io), 6 AN4/CMP2C/RP9/CN9/RB9 (io), 7 AN5/CMP2D/RP10/CN10/RB10 (io), 8 VSS (power), 9 OSC1/CLKIN/RP1/CN1/RB1 (io), 10 OSC2/CLKO/RP2/CN2/RB2 (io), 11 PGED2/DACOUT/INT0/RP3/CN3/RB3 (io), 12 PGEC2/EXTREF/RP4/CN4/RB4 (io), 13 VDD (power), 14 PGED3/RP8/CN8/RB8 (io), 15 PGEC3/RP15/CN15/RB15 (io), 16 TDO/RP5/CN5/RB5 (io), 17 PGED1/TDI/SCL/RP6/CN6/RB6 (io), 18 PGEC1/SDA/RP7/CN7/RB7 (io), 19 VSS (power), 20 VCAP/VDDCORE (power), 21 TMS/RP11/CN11/RB11 (io), 22 TCK/RP12/CN12/RB12 (io), 23 PWM2H/RP13/CN13/RB13 (io), 24 PWM2L/RP14/CN14/RB14 (io), 25 PWM1H/RA4 (io), 26 PWM1L/RA3 (io), 27 AVSS (power), 28 AVDD (power)

## DSPIC33FJ06GS202T-I/MM
designator U?
High-Performance 16-bit Digital Signal Controller, 6 KB Flash, 1 KB RAM , 28-Pin QFN, Industrial Temperature , Tape and Reel; Published: 2-Dec-2009; DatasheetVersion: revD, Mar-2009; PackageVersion: revBB, Aug-2009; PackageReference: QFNS-MM28; Publisher: Altium Limited; PackageDescription: 28-Lead Plastic Quad Flat, No Lead Package (MM) - 6x6x0.9 mm Body [QFN-S] with 0.40 mm Contact Length; Supplier 1: Digi-Key; Supplier Part Number 1: DSPIC33FJ06GS202T-I/MM-ND; ComponentLink1Description: Datasheet; ComponentLink1URL: http://ww1.microchip.com/downloads/en/DeviceDoc/70318D.pdf; ComponentLink2Description: Packaging Specification; ComponentLink2URL: http://www.microchip.com/stellent/groups/techpub_sg/documents/packagingspec/en012702.pdf; ComponentLink3Description: Microchip.com Home; ComponentLink3URL: http://www.microchip.com/
footprint QFNS-MM28_N (QFN, 28-Leads, Body 6x6 mm, Pitch 0.65mm, IPC Medium Density)
footprint QFNS-MM28_L (QFN, 28-Leads, Body 6x6 mm, Pitch 0.65mm, IPC High Density)
footprint QFNS-MM28_M (QFN, 28-Leads, Body 6x6 mm, Pitch 0.65mm, IPC Low Density)
pins: 1 AN2/CMP1C/CMP2A/RA2 (io), 2 AN3/CMP1D/CMP2B/RP0/CN0/RB0 (io), 3 AN4/CMP2C/RP9/CN9/RB9 (io), 4 AN5/CMP2D/RP10/CN10/RB10 (io), 5 VSS (power), 6 OSC1/CLKIN/RP1/CN1/RB1 (io), 7 OSC2/CLKO/RP2/CN2/RB2 (io), 8 PGED2/DACOUT/INT0/RP3/CN3/RB3 (io), 9 PGEC2/EXTREF/RP4/CN4/RB4 (io), 10 VDD (power), 11 PGED3/RP8/CN8/RB8 (io), 12 PGEC3/RP15/CN15/RB15 (io), 13 TDO/RP5/CN5/RB5 (io), 14 PGED1/TDI/SCL/RP6/CN6/RB6 (io), 15 PGEC1/SDA/RP7/CN7/RB7 (io), 16 VSS (power), 17 VCAP/VDDCORE (power), 18 TMS/RP11/CN11/RB11 (io), 19 TCK/RP12/CN12/RB12 (io), 20 PWM2H/RP13/CN13/RB13 (io), 21 PWM2L/RP14/CN14/RB14 (io), 22 PWM1H/RA4 (io), 23 PWM1L/RA3 (io), 24 AVSS (power), 25 AVDD (power), 26 ~{MCLR} (in), 27 AN0/CMP1A/RA0 (io), 28 AN1/CMP1B/RA1 (io), 29 Thermal Pad

## DSPIC33FJ06GS202T-I/SO
designator U?
High-Performance 16-bit Digital Signal Controller, 6 KB Flash, 1 KB RAM , 28-Pin SOIC, Industrial Temperature , Tape and Reel; Published: 2-Dec-2009; DatasheetVersion: revD, Mar-2009; PackageVersion: revBB, Aug-2009; PackageReference: SOIC-SO28; Publisher: Altium Limited; PackageDescription: 28-Lead Plastic Small Outline (SO) - Wide 7.50mm Body [SOIC]; Supplier 1: Digi-Key; Supplier Part Number 1: DSPIC33FJ06GS202T-I/SO-ND; Code_JEDEC: MS-013; ComponentLink1Description: Datasheet; ComponentLink1URL: http://ww1.microchip.com/downloads/en/DeviceDoc/70318D.pdf; ComponentLink2Description: Packaging Specification; ComponentLink2URL: http://www.microchip.com/stellent/groups/techpub_sg/documents/packagingspec/en012702.pdf; ComponentLink3Description: Microchip.com Home; ComponentLink3URL: http://www.microchip.com/
footprint SOIC-SO28_N (SOIC, 28-Leads, Body 17.9x7.5mm, Pitch 1.27mm, IPC Medium Density)
footprint SOIC-SO28_L (SOIC, 28-Leads, Body 17.9x7.5mm, Pitch 1.27mm, IPC High Density)
footprint SOIC-SO28_M (SOIC, 28-Leads, Body 17.9x7.5mm, Pitch 1.27mm, IPC Low Density)
pins: 1 ~{MCLR} (in), 2 AN0/CMP1A/RA0 (io), 3 AN1/CMP1B/RA1 (io), 4 AN2/CMP1C/CMP2A/RA2 (io), 5 AN3/CMP1D/CMP2B/RP0/CN0/RB0 (io), 6 AN4/CMP2C/RP9/CN9/RB9 (io), 7 AN5/CMP2D/RP10/CN10/RB10 (io), 8 VSS (power), 9 OSC1/CLKIN/RP1/CN1/RB1 (io), 10 OSC2/CLKO/RP2/CN2/RB2 (io), 11 PGED2/DACOUT/INT0/RP3/CN3/RB3 (io), 12 PGEC2/EXTREF/RP4/CN4/RB4 (io), 13 VDD (power), 14 PGED3/RP8/CN8/RB8 (io), 15 PGEC3/RP15/CN15/RB15 (io), 16 TDO/RP5/CN5/RB5 (io), 17 PGED1/TDI/SCL/RP6/CN6/RB6 (io), 18 PGEC1/SDA/RP7/CN7/RB7 (io), 19 VSS (power), 20 VCAP/VDDCORE (power), 21 TMS/RP11/CN11/RB11 (io), 22 TCK/RP12/CN12/RB12 (io), 23 PWM2H/RP13/CN13/RB13 (io), 24 PWM2L/RP14/CN14/RB14 (io), 25 PWM1H/RA4 (io), 26 PWM1L/RA3 (io), 27 AVSS (power), 28 AVDD (power)

## DSPIC33FJ12GP201-E/P
designator U?
High-Performance 16-bit Digital Signal Controller, 12 KB Flash, 1 KB RAM, 18-Pin PDIP, Extended High Temperature; Published: 29-Jan-2009; LatestRevisionDate: 02-Dec-2009; LatestRevisionNote: Updated to datasheet revision D, Jun-2009; DatasheetVersion: revD, Jun-2009; PackageVersion: revBB, Aug-2009; PackageReference: PDIP300-P18; Publisher: Altium Limited; PackageDescription: 18-Lead Plastic Dual In-Line (P) - 300 mil Body [PDIP]; Supplier 1: Digi-Key; Supplier Part Number 1: DSPIC33FJ12GP201-E/P-ND; Code_JEDEC: MS-001; ComponentLink1Description: Datasheet; ComponentLink1URL: http://ww1.microchip.com/downloads/en/DeviceDoc/70264D.pdf; ComponentLink2Description: Packaging Specification; ComponentLink2URL: http://www.microchip.com/stellent/groups/techpub_sg/documents/packagingspec/en012702.pdf; ComponentLink3Description: Microchip.com Home; ComponentLink3URL: http://www.microchip.com/
footprint PDIP300-P18 (DIP, 18-Leads, Row Spacing 7.62mm, Pitch 2.54mm, Body 22.9x6.6mm)
pins: 1 ~{MCLR} (in), 2 PGED2/EMUD2/AN0/VREF+/CN2/RA0 (io), 3 PGEC2/EMUC2/AN1/VREF-/CN3/RA1 (io), 4 PGED1/EMUD1/AN2/RP0/CN4/RB0 (io), 5 PGEC1/EMUC1/AN3/RP1/CN5/RB1 (io), 6 OSC1/CLKI/CN30/RA2 (io), 7 OSC2/CLKO/CN29/RA3 (io), 8 PGED3/EMUD3/SOSCI/RP4/CN1/RB4 (io), 9 PGEC3/EMUC3/SOSCO/T1CK/CN0/RA4 (io), 10 INT0/RP7/CN23/RB7 (io), 11 SCL1/RP8/CN22/RB8 (io), 12 SDA1/RP9/CN21/RB9 (io), 13 VSS (power), 14 VCAP/VDDCORE (power), 15 AN7/RP14/CN12/RB14 (io), 16 AN6/RP15/CN11/RB15 (io), 17 VSS (power), 18 VDD (power)

## DSPIC33FJ12GP201-E/SO
designator U?
High-Performance 16-bit Digital Signal Controller, 12 KB Flash, 1 KB RAM, 18-Pin SOIC, Extended High Temperature; Published: 29-Jan-2009; LatestRevisionDate: 02-Dec-2009; LatestRevisionNote: Updated to datasheet revision D, Jun-2009; DatasheetVersion: revD, Jun-2009; PackageVersion: revBB, Aug-2009; PackageReference: SOIC-SO18; Publisher: Altium Limited; PackageDescription: 18-Lead Plastic Small Outline (SO) - Wide 7.50mm Body [SOIC]; Supplier 1: Digi-Key; Supplier Part Number 1: DSPIC33FJ12GP201-E/SO-ND; Code_JEDEC: MS-013; ComponentLink1Description: Datasheet; ComponentLink1URL: http://ww1.microchip.com/downloads/en/DeviceDoc/70264D.pdf; ComponentLink2Description: Packaging Specification; ComponentLink2URL: http://www.microchip.com/stellent/groups/techpub_sg/documents/packagingspec/en012702.pdf; ComponentLink3Description: Microchip.com Home; ComponentLink3URL: http://www.microchip.com/
footprint SOIC-SO18_N (SOIC, 18-Leads, Body 11.5x7.5mm, Pitch 1.27mm, IPC Medium Density)
footprint SOIC-SO18_L (SOIC, 18-Leads, Body 11.5x7.5mm, Pitch 1.27mm, IPC High Density)
footprint SOIC-SO18_M (SOIC, 18-Leads, Body 11.5x7.5mm, Pitch 1.27mm, IPC Low Density)
pins: 1 ~{MCLR} (in), 2 PGED2/EMUD2/AN0/VREF+/CN2/RA0 (io), 3 PGEC2/EMUC2/AN1/VREF-/CN3/RA1 (io), 4 PGED1/EMUD1/AN2/RP0/CN4/RB0 (io), 5 PGEC1/EMUC1/AN3/RP1/CN5/RB1 (io), 6 OSC1/CLKI/CN30/RA2 (io), 7 OSC2/CLKO/CN29/RA3 (io), 8 PGED3/EMUD3/SOSCI/RP4/CN1/RB4 (io), 9 PGEC3/EMUC3/SOSCO/T1CK/CN0/RA4 (io), 10 INT0/RP7/CN23/RB7 (io), 11 SCL1/RP8/CN22/RB8 (io), 12 SDA1/RP9/CN21/RB9 (io), 13 VSS (power), 14 VCAP/VDDCORE (power), 15 AN7/RP14/CN12/RB14 (io), 16 AN6/RP15/CN11/RB15 (io), 17 VSS (power), 18 VDD (power)

## DSPIC33FJ12GP201-I/P
designator U?
High-Performance 16-bit Digital Signal Controller, 12 KB Flash, 1 KB RAM, 18-Pin PDIP, Industrial Temperature; Published: 29-Jan-2009; LatestRevisionDate: 02-Dec-2009; LatestRevisionNote: Updated to datasheet revision D, Jun-2009; DatasheetVersion: revD, Jun-2009; PackageVersion: revBB, Aug-2009; PackageReference: PDIP300-P18; Publisher: Altium Limited; PackageDescription: 18-Lead Plastic Dual In-Line (P) - 300 mil Body [PDIP]; Supplier 1: Digi-Key; Supplier Part Number 1: DSPIC33FJ12GP201-I/P-ND; Supplier 2: Farnell; Supplier Part Number 2: 1439602; Code_JEDEC: MS-001; ComponentLink1Description: Datasheet; ComponentLink1URL: http://ww1.microchip.com/downloads/en/DeviceDoc/70264D.pdf; ComponentLink2Description: Packaging Specification; ComponentLink2URL: http://www.microchip.com/stellent/groups/techpub_sg/documents/packagingspec/en012702.pdf; ComponentLink3Description: Microchip.com Home; ComponentLink3URL: http://www.microchip.com/
footprint PDIP300-P18 (DIP, 18-Leads, Row Spacing 7.62mm, Pitch 2.54mm, Body 22.9x6.6mm)
pins: 1 ~{MCLR} (in), 2 PGED2/EMUD2/AN0/VREF+/CN2/RA0 (io), 3 PGEC2/EMUC2/AN1/VREF-/CN3/RA1 (io), 4 PGED1/EMUD1/AN2/RP0/CN4/RB0 (io), 5 PGEC1/EMUC1/AN3/RP1/CN5/RB1 (io), 6 OSC1/CLKI/CN30/RA2 (io), 7 OSC2/CLKO/CN29/RA3 (io), 8 PGED3/EMUD3/SOSCI/RP4/CN1/RB4 (io), 9 PGEC3/EMUC3/SOSCO/T1CK/CN0/RA4 (io), 10 INT0/RP7/CN23/RB7 (io), 11 SCL1/RP8/CN22/RB8 (io), 12 SDA1/RP9/CN21/RB9 (io), 13 VSS (power), 14 VCAP/VDDCORE (power), 15 AN7/RP14/CN12/RB14 (io), 16 AN6/RP15/CN11/RB15 (io), 17 VSS (power), 18 VDD (power)

## DSPIC33FJ12GP201-I/SO
designator U?
High-Performance 16-bit Digital Signal Controller, 12 KB Flash, 1 KB RAM, 18-Pin SOIC, Industrial Temperature; Published: 29-Jan-2009; LatestRevisionDate: 02-Dec-2009; LatestRevisionNote: Updated to datasheet revision D, Jun-2009; DatasheetVersion: revD, Jun-2009; PackageVersion: revBB, Aug-2009; PackageReference: SOIC-SO18; Publisher: Altium Limited; PackageDescription: 18-Lead Plastic Small Outline (SO) - Wide 7.50mm Body [SOIC]; Supplier 1: Digi-Key; Supplier Part Number 1: DSPIC33FJ12GP201-I/SO-ND; Supplier 2: Farnell; Supplier Part Number 2: 1439604; Code_JEDEC: MS-013; ComponentLink1Description: Datasheet; ComponentLink1URL: http://ww1.microchip.com/downloads/en/DeviceDoc/70264D.pdf; ComponentLink2Description: Packaging Specification; ComponentLink2URL: http://www.microchip.com/stellent/groups/techpub_sg/documents/packagingspec/en012702.pdf; ComponentLink3Description: Microchip.com Home; ComponentLink3URL: http://www.microchip.com/
footprint SOIC-SO18_N (SOIC, 18-Leads, Body 11.5x7.5mm, Pitch 1.27mm, IPC Medium Density)
footprint SOIC-SO18_L (SOIC, 18-Leads, Body 11.5x7.5mm, Pitch 1.27mm, IPC High Density)
footprint SOIC-SO18_M (SOIC, 18-Leads, Body 11.5x7.5mm, Pitch 1.27mm, IPC Low Density)
pins: 1 ~{MCLR} (in), 2 PGED2/EMUD2/AN0/VREF+/CN2/RA0 (io), 3 PGEC2/EMUC2/AN1/VREF-/CN3/RA1 (io), 4 PGED1/EMUD1/AN2/RP0/CN4/RB0 (io), 5 PGEC1/EMUC1/AN3/RP1/CN5/RB1 (io), 6 OSC1/CLKI/CN30/RA2 (io), 7 OSC2/CLKO/CN29/RA3 (io), 8 PGED3/EMUD3/SOSCI/RP4/CN1/RB4 (io), 9 PGEC3/EMUC3/SOSCO/T1CK/CN0/RA4 (io), 10 INT0/RP7/CN23/RB7 (io), 11 SCL1/RP8/CN22/RB8 (io), 12 SDA1/RP9/CN21/RB9 (io), 13 VSS (power), 14 VCAP/VDDCORE (power), 15 AN7/RP14/CN12/RB14 (io), 16 AN6/RP15/CN11/RB15 (io), 17 VSS (power), 18 VDD (power)